# Altium schematic symbol library ESP32-S3-WROOM-2.SchLib: 1 symbol
Pins are listed as number, name and electrical type; pins without a type are passive.

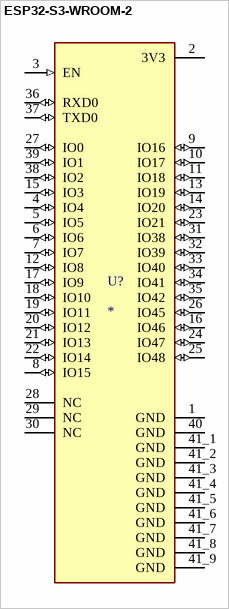
[diagram p0: symbol ESP32-S3-WROOM-2]

## ESP32-S3-WROOM-2
designator U?
2.4 GHz Wi-Fi (802.11b/g/n) and Bluetooth® 5 module. Built around ESP32-S3 series of SoCs, Xtensa® dual-core 32-bit LX7 microprocessor. Flash up to 32 MB (Octal), PSRAM up to 16 MB (Octal). 33 GPIOs, rich set of peripherals; Manufacturer: ESPRESSIF; Flash: 32MB; PSRAM: 16MB; Antenna: On-board PCB; Chip Embedded: S3R16V, S3R8V; Pin: 41; ComponentLink1Description: Datasheet; ComponentLink1URL: https://www.espressif.com/sites/default/files/documentation/esp32-s3-wroom-2_datasheet_en.pdf
footprint ESP32-S3-WROOM-2
pins: 1 GND (power), 2 3V3 (power), 3 EN (in), 4 IO4 (io), 5 IO5 (io), 6 IO6 (io), 7 IO7 (io), 8 IO15 (io), 9 IO16 (io), 10 IO17 (io), 11 IO18 (io), 12 IO8 (io), 13 IO19 (io), 14 IO20 (io), 15 IO3 (io), 16 IO46 (io), 17 IO9 (io), 18 IO10 (io), 19 IO11 (io), 20 IO12 (io), 21 IO13 (io), 22 IO14 (io), 23 IO21 (io), 24 IO47 (io), 25 IO48 (io), 26 IO45 (io), 27 IO0 (io), 28 NC, 29 NC, 30 NC, 31 IO38 (io), 32 IO39 (io), 33 IO40 (io), 34 IO41 (io), 35 IO42 (io), 36 RXD0 (io), 37 TXD0 (io), 38 IO2 (io), 39 IO1 (io), 40 GND (power), 41_1 GND (power), 41_2 GND (power), 41_3 GND (power), 41_4 GND (power), 41_5 GND (power), 41_6 GND (power), 41_7 GND (power), 41_8 GND (power), 41_9 GND (power)